# Altium schematic symbol library HAH3DR_S07_SP3.SchLib: 1 symbol
Pins are listed as number, name and electrical type; pins without a type are passive.

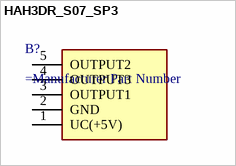
[diagram p0: symbol HAH3DR_S07_SP3]

## HAH3DR_S07_SP3
designator B?
pins: 1 UC(+5V), 2 GND, 3 OUTPUT1, 4 OUTPUT3, 5 OUTPUT2